# EAGLE library part LH538 (library retrogaming)
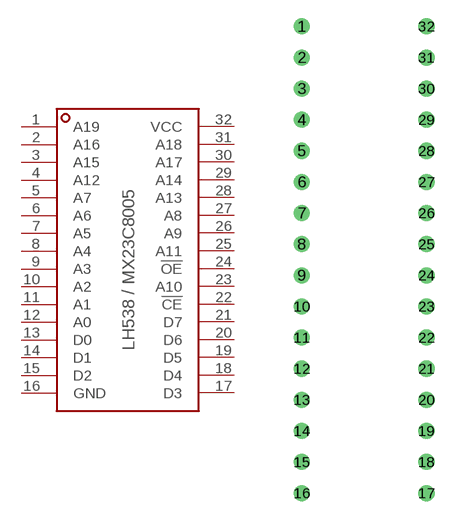
[diagram p2: symbol with the pads of PDIP; footprint PDIP]

Designator prefix -

## LH538  [PDIP]
1  A19  in
2  A16  in
3  A15  in
4  A12  in
5  A7  in
6  A6  in
7  A5  in
8  A4  in
9  A3  in
10  A2  in
11  A1  in
12  A0  in
13  D0  out
14  D1  out
15  D2  out
16  GND  pwr
17  D3  out
18  D4  out
19  D5  out
20  D6  out
21  D7  out
22  !CE!  in
23  A10  in
24  !OE!  in
25  A11  in
26  A9  in
27  A8  in
28  A13  in
29  A14  in
30  A17  in
31  A18  in
32  VCC  pwr

## Footprint PDIP (pad centres in mm)
drill 0.8: 1 -5.08,16.51; 2 -5.08,13.97; 3 -5.08,11.43; 4 -5.08,8.89; 5 -5.08,6.35; 6 -5.08,3.81; 7 -5.08,1.27; 8 -5.08,-1.27; 9 -5.08,-3.81; 10 -5.08,-6.35; 11 -5.08,-8.89; 12 -5.08,-11.43; 13 -5.08,-13.97; 14 -5.08,-16.51; 15 -5.08,-19.05; 16 -5.08,-21.59; 17 5.08,-21.59; 18 5.08,-19.05; 19 5.08,-16.51; 20 5.08,-13.97; 21 5.08,-11.43; 22 5.08,-8.89; 23 5.08,-6.35; 24 5.08,-3.81; 25 5.08,-1.27; 26 5.08,1.27; 27 5.08,3.81; 28 5.08,6.35; 29 5.08,8.89; 30 5.08,11.43; 31 5.08,13.97; 32 5.08,16.51